# Altium footprint library LIANGJICHAO_LIBRARY.PCBLIB: 178 footprints (part 2 of 12)
Each footprint in its own frame and in the unit in brackets; x right, y up, seen from the top. Pads: shape width x height; smd on the part's side, far side on the other; paste and mask are expansions set on the pad; w line width, h text height; cw(c..) or ccw(c..) is an arc to the next point about the centre after c.
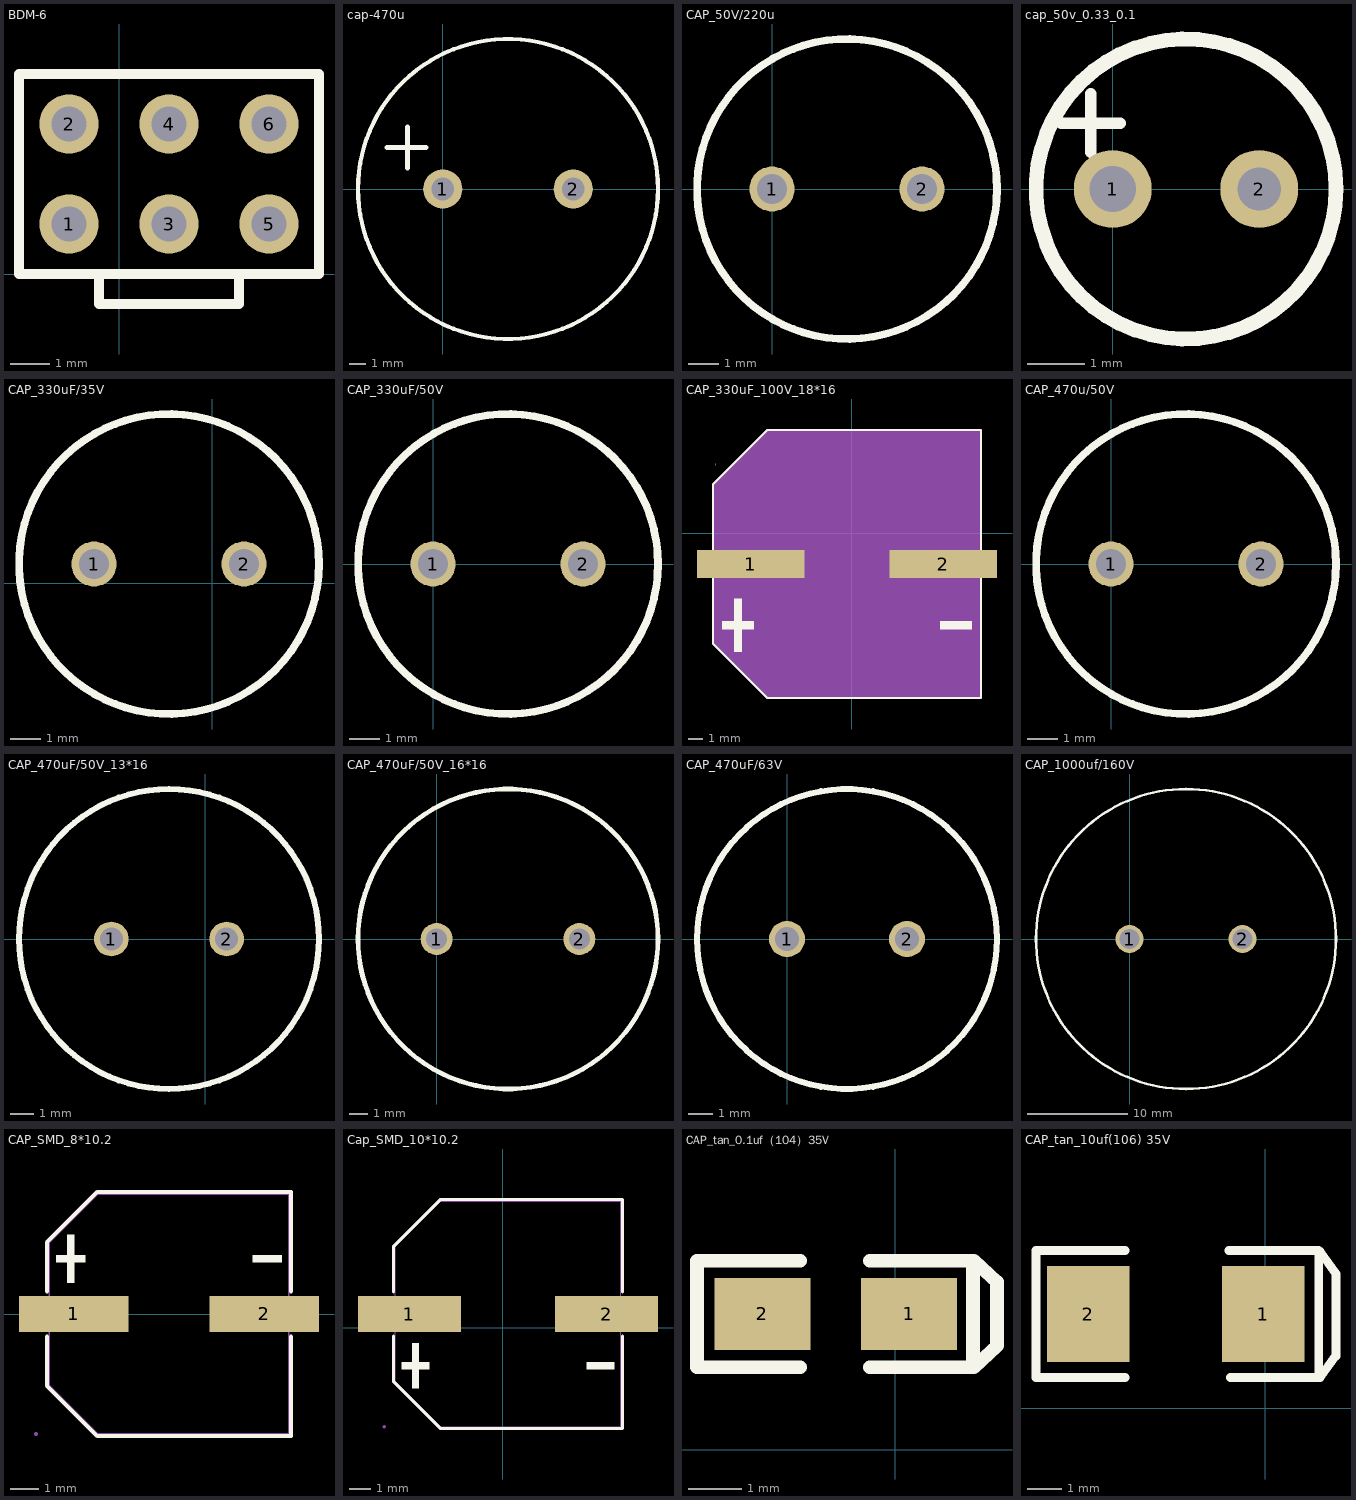
[diagram p1: the footprints below, top view; thin cyan lines are the x and y axes]

## BDM-6 [mm]
pads (6):
  round 1.5 hole 0.9: 1(-1.27,1.27) 2(-1.27,3.81) 3(1.27,1.27) 4(1.27,3.81) 5(3.81,1.27) 6(3.81,3.81)
Top Overlay:
  lines w0.2: 0.212,0 5.08,0 ; 5.08,0 5.08,5.08 -2.54,5.08 -2.54,0 5.08,0
  lines w0.254: -0.508,0 -0.508,-0.762 ; 2.921,-0.762 -0.508,-0.762 ; 3.048,0 3.048,-0.762 -0.508,-0.762 ; -2.54,0 -2.54,5.08 5.08,5.08 5.08,0 -2.54,0

## cap-470u [mm]
pads (2):
  round 2.4 hole 1.4: 1(0,0) 2(8,0)
Top Overlay:
  circle w0.254: c4,0 r9.2
  lines w0.3: -3.429,2.54 -3.175,2.54 -1.016,2.54 ; -2.159,1.27 -2.159,3.81

## CAP_50V/220u [mm]
pads (2):
  round 1.5 hole 1: 1(0,0) 2(5,0)
Top Overlay:
  circle w0.254: c2.5,0 r5

## cap_50v_0.33_0.1 [mm]
pads (2):
  round 1.35 hole 0.8: 1(0,0)
  round 1.35 hole 0.75: 2(2.54,0)
Top Overlay:
  circle w0.254: c1.27,0 r2.6
  lines w0.2: -0.889,1.143 0.127,1.143 ; -0.381,0.635 -0.381,1.651

## CAP_330uF/35V [mm]
pads (2):
  round 1.5 hole 1: 1(-3.937,0.635) 2(1.063,0.635)
Top Overlay:
  circle w0.254: c-1.437,0.635 r5

## CAP_330uF/50V [mm]
pads (2):
  round 1.5 hole 1: 1(0,0) 2(5,0)
Top Overlay:
  circle w0.254: c2.5,0 r5

## CAP_330uF_100V_18*16 [mm]
pads (2):
  rect 7.7x2 smd: 1(-7.217,-2.184) 2(6.523,-2.184)
Top Overlay:
  region: 8.583,-6.269 8.583,-6.839 6.303,-6.839 6.303,-6.269
  region: -9.277,-6.269 -9.277,-6.839 -6.997,-6.839 -6.997,-6.269
  region: -8.422,-4.654 -8.422,-8.454 -7.852,-8.454 -7.852,-4.654
  lines w0.152: -9.924,-3.211 -9.924,-7.884 -6.047,-11.76 9.229,-11.76 9.229,-3.211 ; -9.924,-1.157 -9.924,3.516 -6.047,7.392 9.229,7.392 9.229,-1.157
Mechanical 4:
  region: 9.153,7.316 9.153,-11.684 -6.047,-11.684 -9.847,-7.884 -9.847,3.516 -6.047,7.316
Mechanical 5:
  region: 9.653,-1.559 9.653,-2.809 2.853,-2.809 2.853,-1.559
  region: -10.347,-1.559 -10.347,-2.809 -3.547,-2.809 -3.547,-1.559
Mechanical 6:
  circle w0.06: c-9.745,4.928 r0.03
Mechanical 15:
  region: 8.583,-1.899 8.583,-2.469 6.303,-2.469 6.303,-1.899
  region: -9.277,-1.899 -9.277,-2.469 -6.997,-2.469 -6.997,-1.899
  region: -8.422,-0.284 -8.422,-4.084 -7.852,-4.084 -7.852,-0.284

## CAP_470u/50V [mm]
pads (2):
  round 1.5 hole 1: 1(0,0) 2(5,0)
Top Overlay:
  circle w0.254: c2.5,0 r5

## CAP_470uF/50V_13*16 [mm]
pads (2):
  round 1.5 hole 1: 1(-4.064,0) 2(0.936,0)
Top Overlay:
  circle w0.254: c-1.564,0 r6.5

## CAP_470uF/50V_16*16 [mm]
pads (2):
  round 1.7 hole 1.1: 1(0,0) 2(7.62,0)
Top Overlay:
  circle w0.254: c3.81,0 r8

## CAP_470uF/63V [mm]
pads (2):
  round 1.5 hole 1: 1(0,0) 2(5,0)
Top Overlay:
  circle w0.254: c2.5,0 r6.25

## CAP_1000uf/160V [mm]
pads (2):
  round 2.8 hole 2: 1(0,0) 2(11.3,0)
Top Overlay:
  circle w0.254: c5.65,0 r15

## CAP_SMD_8*10.2 [mm]
pads (2):
  rect 3.8x1.26 smd paste+0.051: 1(8.79,0.01) 2(15.38,0.01)
Top Overlay:
  region: 8.557,1.089 8.557,2.749 8.806,2.749 8.806,1.089
  region: 8.184,1.794 8.184,2.043 9.18,2.043 9.18,1.794
  region: 15.986,1.794 15.986,2.043 14.99,2.043 14.99,1.794
  lines w0.152: 7.859,-0.773 7.859,-2.48 9.595,-4.216 16.311,-4.216 16.311,-0.773 ; 7.859,0.792 7.859,2.5 9.595,4.236 16.311,4.236 16.311,0.792
Mechanical 2:
  region: 8.184,-0.115 8.184,0.134 9.18,0.134 9.18,-0.115
  region: 15.986,-0.115 15.986,0.134 14.99,0.134 14.99,-0.115
Mechanical 6:
  lines w0.051: 7.935,-2.48 9.595,-4.14 16.235,-4.14 16.235,4.16 9.595,4.16 7.935,2.5 7.935,-2.48
Mechanical 8:
  region: 7.545,-4.14 7.545,-4.165 7.51,-4.2 7.46,-4.2 7.425,-4.165 7.425,-4.14 7.425,-4.115 7.46,-4.08 7.51,-4.08 7.545,-4.115 7.545,-4.14
Mechanical 9:
  region: 10.485,-0.34 7.485,-0.34 7.485,0.36 10.485,0.36
  region: 16.685,-0.34 13.685,-0.34 13.685,0.36 16.685,0.36

## Cap_SMD_10*10.2 [mm]
pads (2):
  rect 4.7x1.65 smd: 1(-4.252,0.629) 2(4.747,0.629)
Top Overlay:
  region: -4.13,-0.71 -4.13,-2.77 -3.821,-2.77 -3.821,-0.71
  region: -4.594,-1.586 -4.594,-1.895 -3.358,-1.895 -3.358,-1.586
  region: 5.088,-1.586 5.088,-1.895 3.852,-1.895 3.852,-1.586
  lines w0.152: -4.979,-0.376 -4.979,-2.461 -2.843,-4.597 5.474,-4.597 5.474,-0.376 ; -4.979,1.634 -4.979,3.719 -2.843,5.855 5.474,5.855 5.474,1.634
Mechanical 6:
  region: -4.594,0.783 -4.594,0.474 -3.358,0.474 -3.358,0.783
  region: 5.088,0.783 5.088,0.474 3.852,0.474 3.852,0.783
Mechanical 15:
  region: -5.343,-4.521 -5.343,-4.496 -5.378,-4.461 -5.427,-4.461 -5.463,-4.496 -5.463,-4.521 -5.463,-4.546 -5.427,-4.581 -5.378,-4.581 -5.343,-4.546
  region: 2.547,1.104 5.897,1.104 5.897,0.154 2.547,0.154
  region: -5.403,1.104 -2.053,1.104 -2.053,0.154 -5.403,0.154
  lines w0.051: -4.903,-2.461 -2.843,-4.521 5.397,-4.521 5.397,5.779 -2.843,5.779 -4.903,3.719 -4.903,-2.461

## CAP_tan_0.1uf（104）35V [mm]
pads (2):
  rect 1.8x1.35 smd: 1(0.258,2.544) 2(-2.492,2.544)
Top Overlay:
  lines w0.254: -1.782,1.542 -3.719,1.542 -3.719,3.546 -1.782,3.546 ; -0.479,1.544 1.458,1.544 ; -0.479,3.544 1.458,3.544 1.458,1.54 ; 1.472,1.542 1.908,1.944 1.908,3.144 1.472,3.546

## CAP_tan_10uf(106) 35V [mm]
pads (2):
  rect 2.4x2.8 smd: 1(-0.065,2.744) 2(-5.165,2.744)
Top Overlay:
  lines w0.254: -4.085,0.894 -6.692,0.894 -6.692,4.594 -4.085,4.594 ; -1.065,4.594 1.542,4.594 ; -1.022,0.894 1.585,0.894 ; 1.56,0.894 1.56,4.594 ; 1.597,0.894 2.06,1.544 ; 1.597,4.569 2.06,3.919 2.06,1.519